# EAGLE library part MICS-26 (library con-lumberg)
CONNECTOR
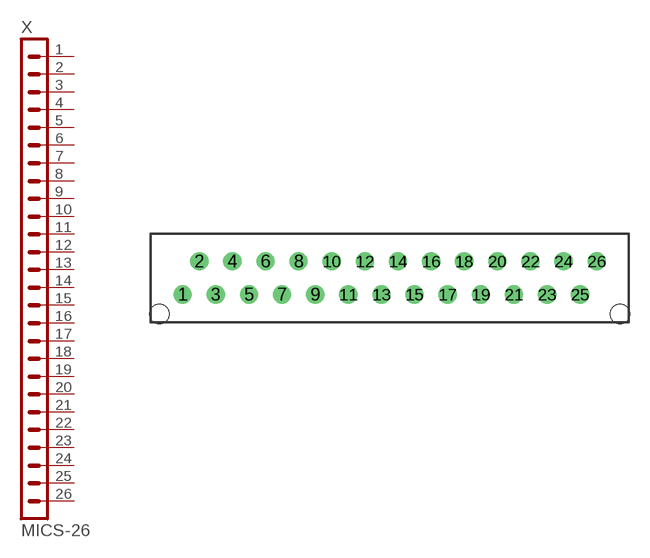
[diagram p2: symbol with the pads of MICS-26; footprint MICS-26]

Designator prefix X

## MICS-26 (OC_FARNELL: unknown; OC_NEWARK: unknown)  [MICS-26]
1  1  pas
2  2  pas
3  3  pas
4  4  pas
5  5  pas
6  6  pas
7  7  pas
8  8  pas
9  9  pas
10  10  pas
11  11  pas
12  12  pas
13  13  pas
14  14  pas
15  15  pas
16  16  pas
17  17  pas
18  18  pas
19  19  pas
20  20  pas
21  21  pas
22  22  pas
23  23  pas
24  24  pas
25  25  pas
26  26  pas

## Footprint MICS-26 (pad centres in mm)
CONNECTOR
drill 0.85 pad 1.397: 1 -15.875,-1.27; 2 -14.605,1.27; 3 -13.335,-1.27; 4 -12.065,1.27; 5 -10.795,-1.27; 6 -9.525,1.27; 7 -8.255,-1.27; 8 -6.985,1.27; 9 -5.715,-1.27; 10 -4.445,1.27; 11 -3.175,-1.27; 12 -1.905,1.27; 13 -0.635,-1.27; 14 0.635,1.27; 15 1.905,-1.27; 16 3.175,1.27; 17 4.445,-1.27; 18 5.715,1.27; 19 6.985,-1.27; 20 8.255,1.27; 21 9.525,-1.27; 22 10.795,1.27; 23 12.065,-1.27; 24 13.335,1.27; 25 14.605,-1.27; 26 15.875,1.27
hole 1.5 at 17.675,-2.75
hole 1.5 at -17.675,-2.75